# EAGLE library part MAT-03H (library transistor-pnp)
Dual TRANSISTOR
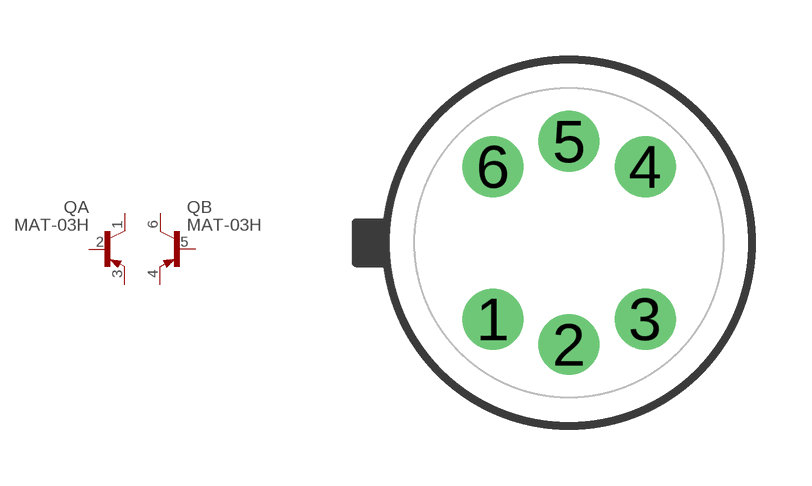
[diagram p0: symbol with the pads of TO78; footprint TO78]

Designator prefix Q; gates A=PNP-L B=PNP-R

## MAT-03H  [TO78]
1  A:C  pas
2  A:B  pas
3  A:E  pas
4  B:E  pas
5  B:B  pas
6  B:C  pas

## Footprint TO78 (pad centres in mm)
Metal Can Package
drill 0.813 pad 1.524: 1 -1.905,-1.905; 2 0,-2.54; 3 1.905,-1.905; 4 1.905,1.905; 5 0,2.54; 6 -1.905,1.905